# Altium schematic symbol library EMK107B7104KA-T.SchLib: 1 symbol
Pins are listed as number, name and electrical type; pins without a type are passive.

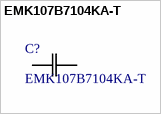
[diagram p0: symbol EMK107B7104KA-T]

## EMK107B7104KA-T
designator C?
Description; Manufacturer_Name: TAIYO YUDEN; Copyright: Copyright (C) 2025 Ultra Librarian. All rights reserved.; Manufacturer_Part_Number: EMK107B7104KA-T
footprint cap_UMK107ABJ474KA-T_TAY
pins: 1, 2